# Altium schematic symbol library sm-electromechanical.SchLib: 2 symbols
Pins are listed as number, name and electrical type; pins without a type are passive.

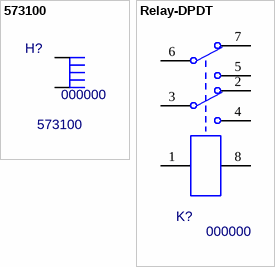
[diagram p0: symbols 573100 to Relay-DPDT]

## 573100
designator H?, comment 000000  value 573100
SMD Heatsink D-PAK; MF: AAVID Thermalloy; PN: 000000; Package: SMD; ExtraInfo: *
footprint 573100 (Heatsink .4" D-PAK)
pins: 1, 2

## Relay-DPDT
designator K?, comment 000000
Dual-Pole Dual-Throw Relay; PN: 000000; Package: SMT; Value: *; ExtraInfo: *
footprint Relay-10X6 (Relay 10mm X 6mm SMT Gull wings)
footprint Relay-15X7.5 (Relay 15mm X 7.5mm SMT Gull wings)
footprint Relay-10X6 HC (Relay 10mm X 6mm SMT Gull wings)
pins: 1, 2, 3, 4, 5, 6, 7, 8